# EAGLE library part SENSOR/KXR94 (library MyParts)
CHARGE MANAGEMENT IC
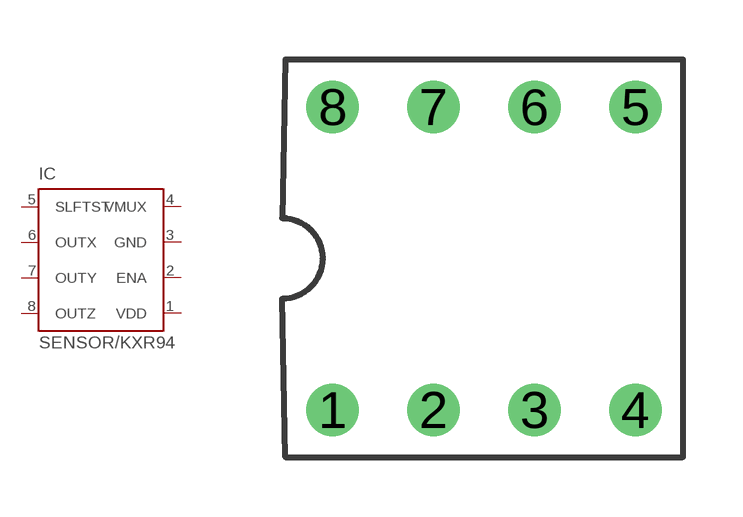
[diagram p0: symbol with the pads of SENSOR/ACC/100-100; footprint SENSOR/ACC/100-100]

Designator prefix IC

## SENSOR/KXR94 (MF: TEXAS INSTRUMENT CONNECTORS; MPN: BQ2002TPN; OC_FARNELL: 8409668; OC_NEWARK: 74C7526)  [SENSOR/ACC/100-100]
1  VDD  in
2  ENA  in
3  GND  oc
4  VMUX  oc
5  SLFTST  pwr
6  OUTX  in
7  OUTY  in
8  OUTZ  pwr

## Footprint SENSOR/ACC/100-100 (pad centres in mm)
Dual In Line Package
drill 0.813 pad 1.27: 1 -3.81,-3.81; 2 -1.27,-3.81; 3 1.27,-3.81; 4 3.81,-3.81; 5 3.81,3.81; 6 1.27,3.81; 7 -1.27,3.81; 8 -3.81,3.81